# Altium footprint library PcbLib1.PcbLib: 22 footprints (part 2 of 2)
Each footprint in its own frame and in the unit in brackets; x right, y up, seen from the top. Pads: shape width x height; smd on the part's side, far side on the other; paste and mask are expansions set on the pad; w line width, h text height; cw(c..) or ccw(c..) is an arc to the next point about the centre after c.
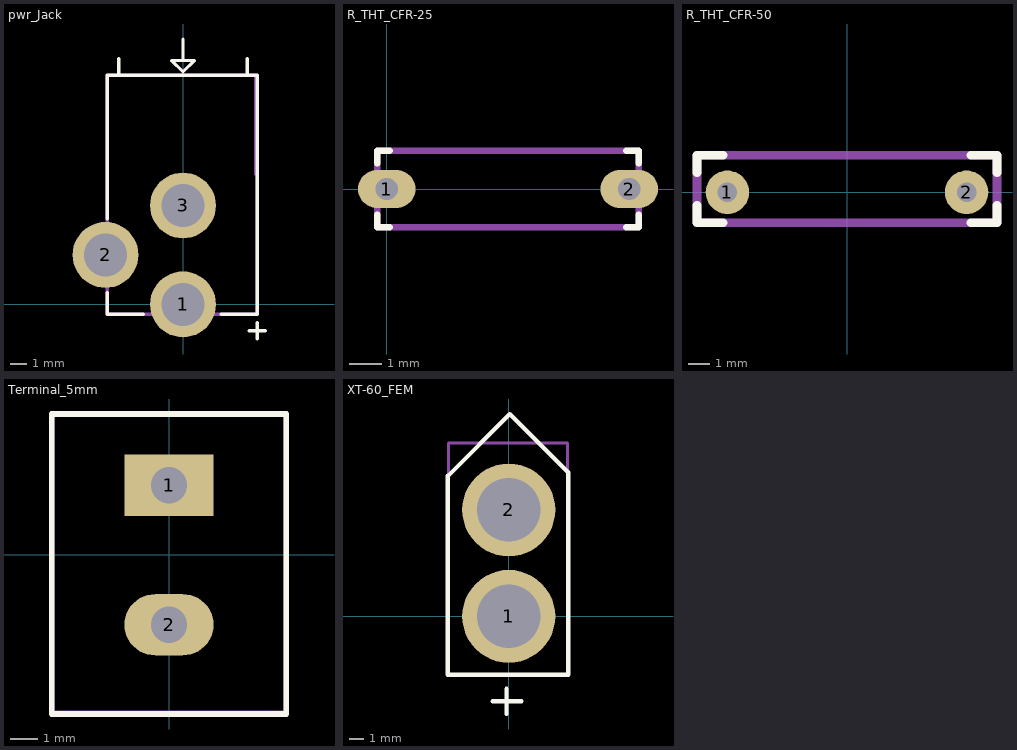
[diagram p1: the footprints below, top view; thin cyan lines are the x and y axes]

## PCBComponent_1 [mm]

## pwr_Jack [mm]
pads (3):
  round 4 hole 2.6: 1(0,0) 2(-4.7,3) 3(0,6)
Top Overlay:
  lines w0.2: -4.6,0.7 -4.6,-0.6 -2.4,-0.6 ; -4.6,5.2 -4.6,13.9 4.5,13.9 4.5,-0.6 2.3,-0.6 ; -3.9,13.9 -3.9,14.9 ; 0,14.8 0,16.1 ; 3.9,13.9 3.9,14.9 ; 4,-1.6 5,-1.6 ; 4.5,-2.1 4.5,-1.1 ; -0.7,14.8 0,14.1 0.7,14.8 -0.7,14.8
Mechanical 2:
  lines w0.2: 4.4,-0.6 -4.6,-0.6 -4.6,13.9 4.4,13.9 4.4,7.9 ; 4.5,-0.6 4.5,13.9
  text ".Designator" at -1.8,8.8 h3
3D body "User Library-DC-10A.step": height 11.01, standoff -3.49, extent -4.8,-0.6 4.5,13.8

## R_THT_CFR-25 [mm]
pads (2):
  oval 1.8x1.2 hole 0.7: 1(0,0) 2(7.6,0)
Top Overlay:
  lines w0.2: -0.3,-0.8 -0.3,-1.2 0.1,-1.2 ; -0.3,0.8 -0.3,1.2 0.1,1.2 ; 7.5,-1.2 7.9,-1.2 7.9,-0.8 ; 7.5,1.2 7.9,1.2 7.9,0.8
Mechanical 2:
  lines w0.2: -0.3,-1.2 -0.3,1.2 7.9,1.2 7.9,-1.2 -0.3,-1.2
  text ".Designator" at 1.5,-0.4 h1
3D body: height 1.71, standoff -0.42, extent 4.9,-1.075 5.3,1.061
3D body "User Library-CFR-25 CFR50S (300mils)-2.STEP": height 1.9, standoff -3.38, extent -0.285,-1.2 7.885,1.2
3D body: height 1.71, standoff -0.42, extent 3.9,-1.075 4.3,1.061
3D body: height 1.71, standoff -0.42, extent 3.1,-1.075 3.5,1.061
3D body: height 1.71, standoff -0.42, extent 2.3,-1.075 2.7,1.061

## R_THT_CFR-50 [mm]
pads (2):
  round 2 hole 0.9: 1(-5.5,0) 2(5.5,0)
Top Overlay:
  lines w0.4: -6.9,-0.6 -6.9,-1.4 -5.7,-1.4 ; -6.9,0.9 -6.9,1.7 -5.7,1.7 ; 5.7,-1.4 6.9,-1.4 6.9,-0.6 ; 5.7,1.7 6.9,1.7 6.9,0.9
Mechanical 2:
  lines w0.4: -6.9,-1.4 -6.9,1.7 6.9,1.7 6.9,-1.4 -6.9,-1.4
  text ".Designator" at -4,-0.4 h1.5
3D body "c-1623932-5-ba-3d.stp": height 3.05, standoff -0.05, extent -7.4,-1.35 7.6,1.75

## Terminal_5mm [mm]
pads (2):
  rect 3.2x2.2 hole 1.3: 1(0,2.5)
  oval 3.2x2.2 hole 1.3: 2(0,-2.5)
Top Overlay:
  lines w0.2: -4.2,-5.7 -4.2,5.05 4.2,5.05 4.2,-5.7 -4.2,-5.7
Mechanical 2:
  lines w0.2: -4.2,-5.675 -4.2,5.05 4.2,5.05 4.2,-5.675 -4.2,-5.675
  text ".Designator" at -2.45,-1.175 h3
3D body "1729018.stp": height 10.01, standoff -3.49, extent -4.075,-5.585 4.075,4.985

## XT-60_FEM [mm]
pads (2):
  round 6.3 hole 4.3: 1(0,0) 2(0,7.2)
Top Overlay:
  lines w0.3: -1.092,-5.74 0.864,-5.74 ; -0.152,-6.604 -0.152,-4.902 ; -4.115,-3.95 4.013,-3.95 4.013,9.754 0.076,13.691 -4.115,9.5 -4.115,-3.95
Mechanical 2:
  lines w0.2: -4.089,-3.924 3.962,-3.924 3.962,11.722 -4.064,11.722 -4.089,11.697 -4.089,-3.924
  text ".Designator" at 1.499,-2.007 h4
3D body "XT60 Female Connector.STEP": height 15.39, standoff -3.44, extent -4.119,-4.047 4.009,11.888